# Altium schematic symbol library 3-2492104-6.SchLib: 1 symbol
Pins are listed as number, name and electrical type; pins without a type are passive.

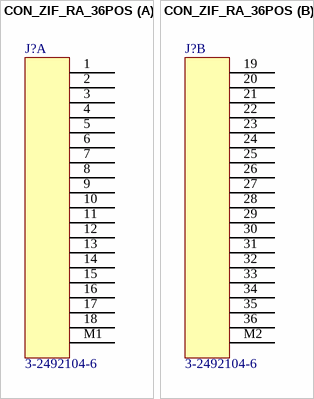
[diagram p0: symbol CON_ZIF_RA_36POS]

## CON_ZIF_RA_36POS
designator J?, comment 3-2492104-6
36 Position FPC Connector Contacts, Bottom 0.020" (0.50mm) Surface Mount, Right Angle; GRAMS Lib Spec: 2.7
footprint CON_ZIF_RA_36POS (3-2492104-6 / 36 Position FPC Connector Contacts, Bottom 0.020" (0.50mm) Surface Mount, Right Angle)
part A pins: 1, 2, 3, 4, 5, 6, 7, 8, 9, 10, 11, 12, 13, 14, 15, 16, 17, 18, M1
part B pins: 19, 20, 21, 22, 23, 24, 25, 26, 27, 28, 29, 30, 31, 32, 33, 34, 35, 36, M2